# EAGLE library part EPF10K100-IO2 (library mita-akiba)
EPF10K100ARC240 I/O pins 61-120: 50 pins
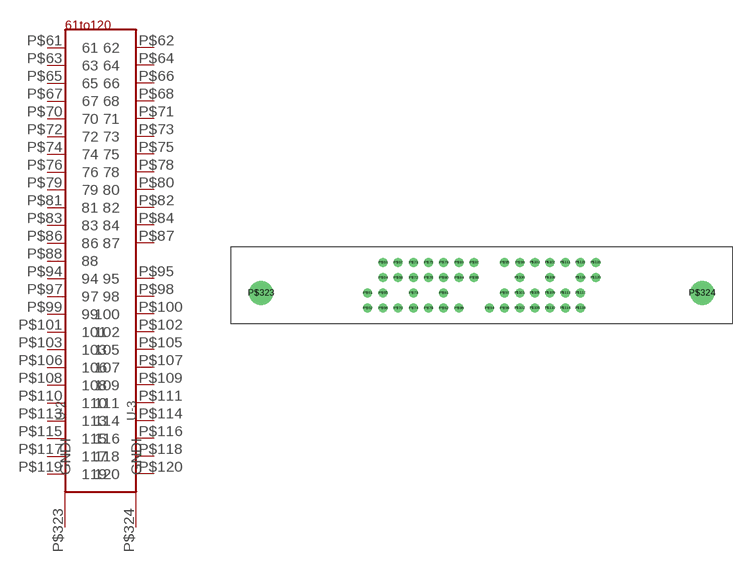
[diagram p14: symbol with the pads of EPF10K100A24IO2; footprint EPF10K100A24IO2]

Designator prefix -; gates -2=GNDINT -3=GNDINT G$1=EPF10K100A-IO2

## EPF10K100-IO2  [EPF10K100A24IO2]
P$61  G$1:61
P$62  G$1:62
P$63  G$1:63
P$64  G$1:64
P$65  G$1:65
P$66  G$1:66
P$67  G$1:67
P$68  G$1:68
P$70  G$1:70
P$71  G$1:71
P$72  G$1:72
P$73  G$1:73
P$74  G$1:74
P$75  G$1:75
P$76  G$1:76
P$78  G$1:78
P$79  G$1:79
P$80  G$1:80
P$81  G$1:81
P$82  G$1:82
P$83  G$1:83
P$84  G$1:84
P$86  G$1:86
P$87  G$1:87
P$88  G$1:88
P$94  G$1:94
P$95  G$1:95
P$97  G$1:97
P$98  G$1:98
P$99  G$1:99
P$100  G$1:100
P$101  G$1:101
P$102  G$1:102
P$103  G$1:103
P$105  G$1:105
P$106  G$1:106
P$107  G$1:107
P$108  G$1:108
P$109  G$1:109
P$110  G$1:110
P$111  G$1:111
P$113  G$1:113
P$114  G$1:114
P$115  G$1:115
P$116  G$1:116
P$117  G$1:117
P$118  G$1:118
P$119  G$1:119
P$120  G$1:120
P$323  -2:GNDI  pwr
P$324  -3:GNDI  pwr

## Footprint EPF10K100A24IO2 (pad centres in mm)
FLEX10K100ARC240 User I/O 2nd line
drill 0.9 pad 1.5: P$61 -19.05,-36.83; P$62 -19.05,-39.37; P$63 -16.51,-31.75; P$64 -16.51,-34.29; P$65 -16.51,-36.83; P$66 -16.51,-39.37; P$67 -13.97,-31.75; P$68 -13.97,-34.29; P$70 -13.97,-39.37; P$71 -11.43,-31.75; P$72 -11.43,-34.29; P$73 -11.43,-36.83; P$74 -11.43,-39.37; P$75 -8.89,-31.75; P$76 -8.89,-34.29; P$78 -8.89,-39.37; P$79 -6.35,-31.75; P$80 -6.35,-34.29; P$81 -6.35,-36.83; P$82 -6.35,-39.37; P$83 -3.81,-31.75; P$84 -3.81,-34.29; P$86 -3.81,-39.37; P$87 -1.27,-31.75; P$88 -1.27,-34.29; P$94 1.27,-39.37; P$95 3.81,-31.75; P$97 3.81,-36.83; P$98 3.81,-39.37; P$99 6.35,-31.75; P$100 6.35,-34.29; P$101 6.35,-36.83; P$102 6.35,-39.37; P$103 8.89,-31.75; P$105 8.89,-36.83; P$106 8.89,-39.37; P$107 11.43,-31.75; P$108 11.43,-34.29; P$109 11.43,-36.83; P$110 11.43,-39.37; P$111 13.97,-31.75; P$113 13.97,-36.83; P$114 13.97,-39.37; P$115 16.51,-31.75; P$116 16.51,-34.29; P$117 16.51,-36.83; P$118 16.51,-39.37; P$119 19.05,-31.75; P$120 19.05,-34.29
drill 3 pad 4: P$323 -36.83,-36.83; P$324 36.83,-36.83